# Altium footprint library WeAct 4.2.PcbLib: 1 footprints
Each footprint in its own frame and in the unit in brackets; x right, y up, seen from the top. Pads: shape width x height; smd on the part's side, far side on the other; paste and mask are expansions set on the pad; w line width, h text height; cw(c..) or ccw(c..) is an arc to the next point about the centre after c.
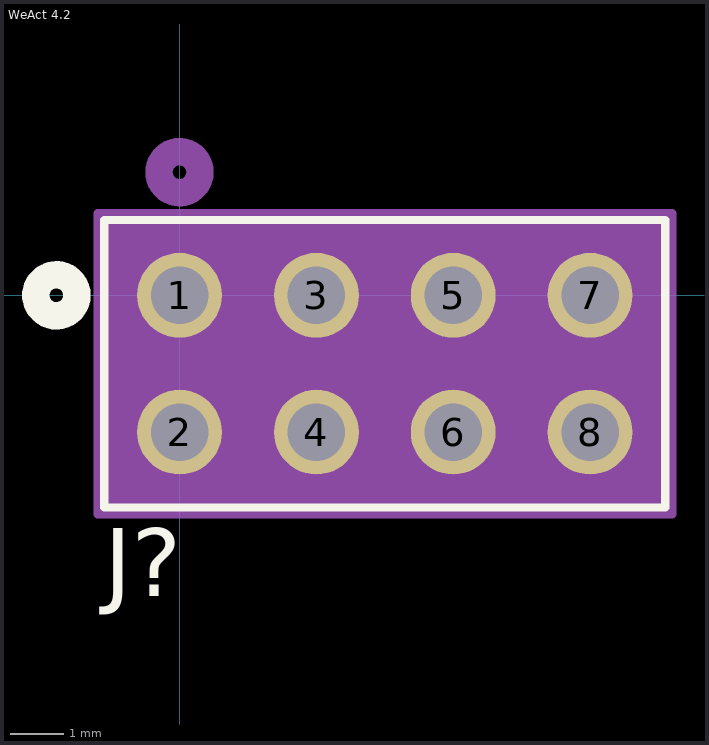
[diagram p0: the footprint, top view; thin cyan lines are the x and y axes]

## WeAct 4.2 [mil]
pads (8):
  round 62 / inner round 60 / far side round 62 hole 42 paste-99999 mask+0: 1(0,0) 2(0,-100) 3(100,0) 4(100,-100) 5(200,0) 6(200,-100) 7(300,0) 8(300,-100)
Top Overlay:
  circle w20: c-90,0 r15
  lines w6: -55,-155 -55,55 355,55 355,-155 -55,-155
  text "J?" at -55,-220 h50
Bottom Overlay:
  circle w20: c-90,0 r15
Mechanical 13:
  circle w20: c0,90 r15
  lines w1: -50,-150 -50,50 350,50 350,-150 -50,-150
Mechanical 15:
  region: 360,60 -60,60 -60,-160 360,-160
  lines w6: -60,-160 360,-160 360,60 -60,60 -60,-160
3D body "010897080.stp": height 332.24, standoff -104.76, extent -50,-150 350,50